# Altium schematic symbol library LM2596R-12.Schlib: 1 symbol
Pins are listed as number, name and electrical type; pins without a type are passive.

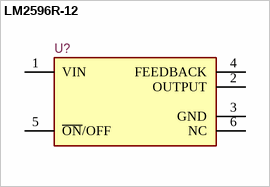
[diagram p0: symbol LM2596R-12]

## LM2596R-12
designator U?
DC-DC CONVERTERS STEP-DOWN ADJUSTABLE (FIXED) 1 40V 1.2V 37V 3A TO-263-5 ROHS; LCSC Part #: C90691; JLCPCB Part Type: Extended; ComponentLink1Description: LCSC - HTC Korea TAEJIN Tech LM2596R-12; ComponentLink1URL: https://lcsc.com/product-detail/DC-DC-Converters_HTC_LM2596R-12_LM2596R-12_C90691.html/?href=jlc-SMT
footprint TO-263-5
pins: 1 VIN, 2 OUTPUT, 3 GND, 4 FEEDBACK, 5 ~{ON}/OFF, 6 NC